# Altium footprint library IRFP240.PcbLib: 1 footprints
Each footprint in its own frame and in the unit in brackets; x right, y up, seen from the top. Pads: shape width x height; smd on the part's side, far side on the other; paste and mask are expansions set on the pad; w line width, h text height; cw(c..) or ccw(c..) is an arc to the next point about the centre after c.
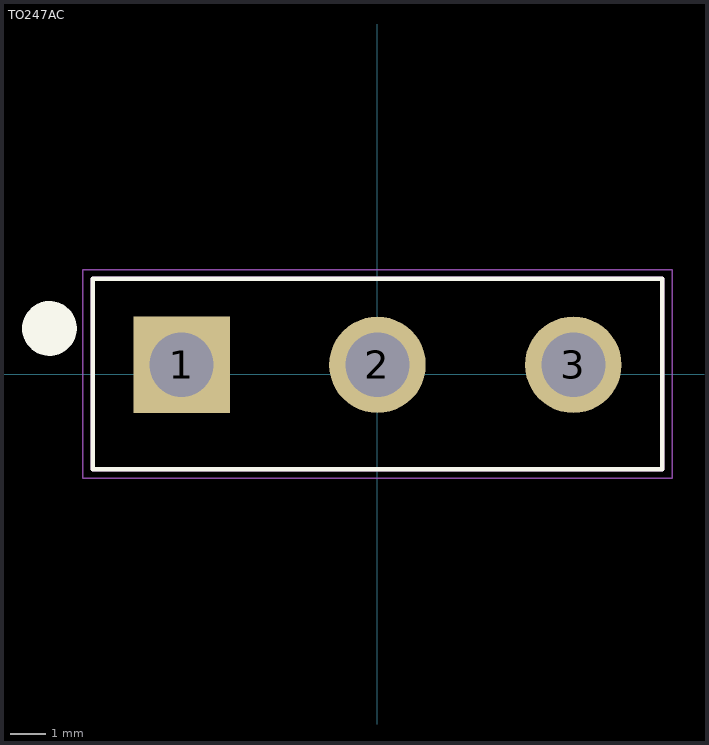
[diagram p0: the footprint, top view; thin cyan lines are the x and y axes]

## TO247AC [mm]
pads (3):
  rect 2.69x2.69 hole 1.79: 1(-5.46,0.255)
  round 2.69 hole 1.79: 2(0,0.255) 3(5.46,0.255)
Top Overlay:
  circle w0.762: c-9.144,1.27 r0.381
  lines w0.127: -7.935,-2.655 7.935,-2.655 7.935,2.655 -7.935,2.655 -7.935,-2.655
Mechanical 1:
  lines w0.05: -8.215,-2.905 -8.215,2.905 8.215,2.905 8.215,-2.905 -8.215,-2.905
  lines w0.127: -7.935,-2.655 -7.935,2.655 7.935,2.655 7.935,-2.655 -7.935,-2.655